# Altium footprint library WE-VD.PcbLib: 60 footprints (part 3 of 4)
Each footprint in its own frame and in the unit in brackets; x right, y up, seen from the top. Pads: shape width x height; smd on the part's side, far side on the other; paste and mask are expansions set on the pad; w line width, h text height; cw(c..) or ccw(c..) is an arc to the next point about the centre after c.
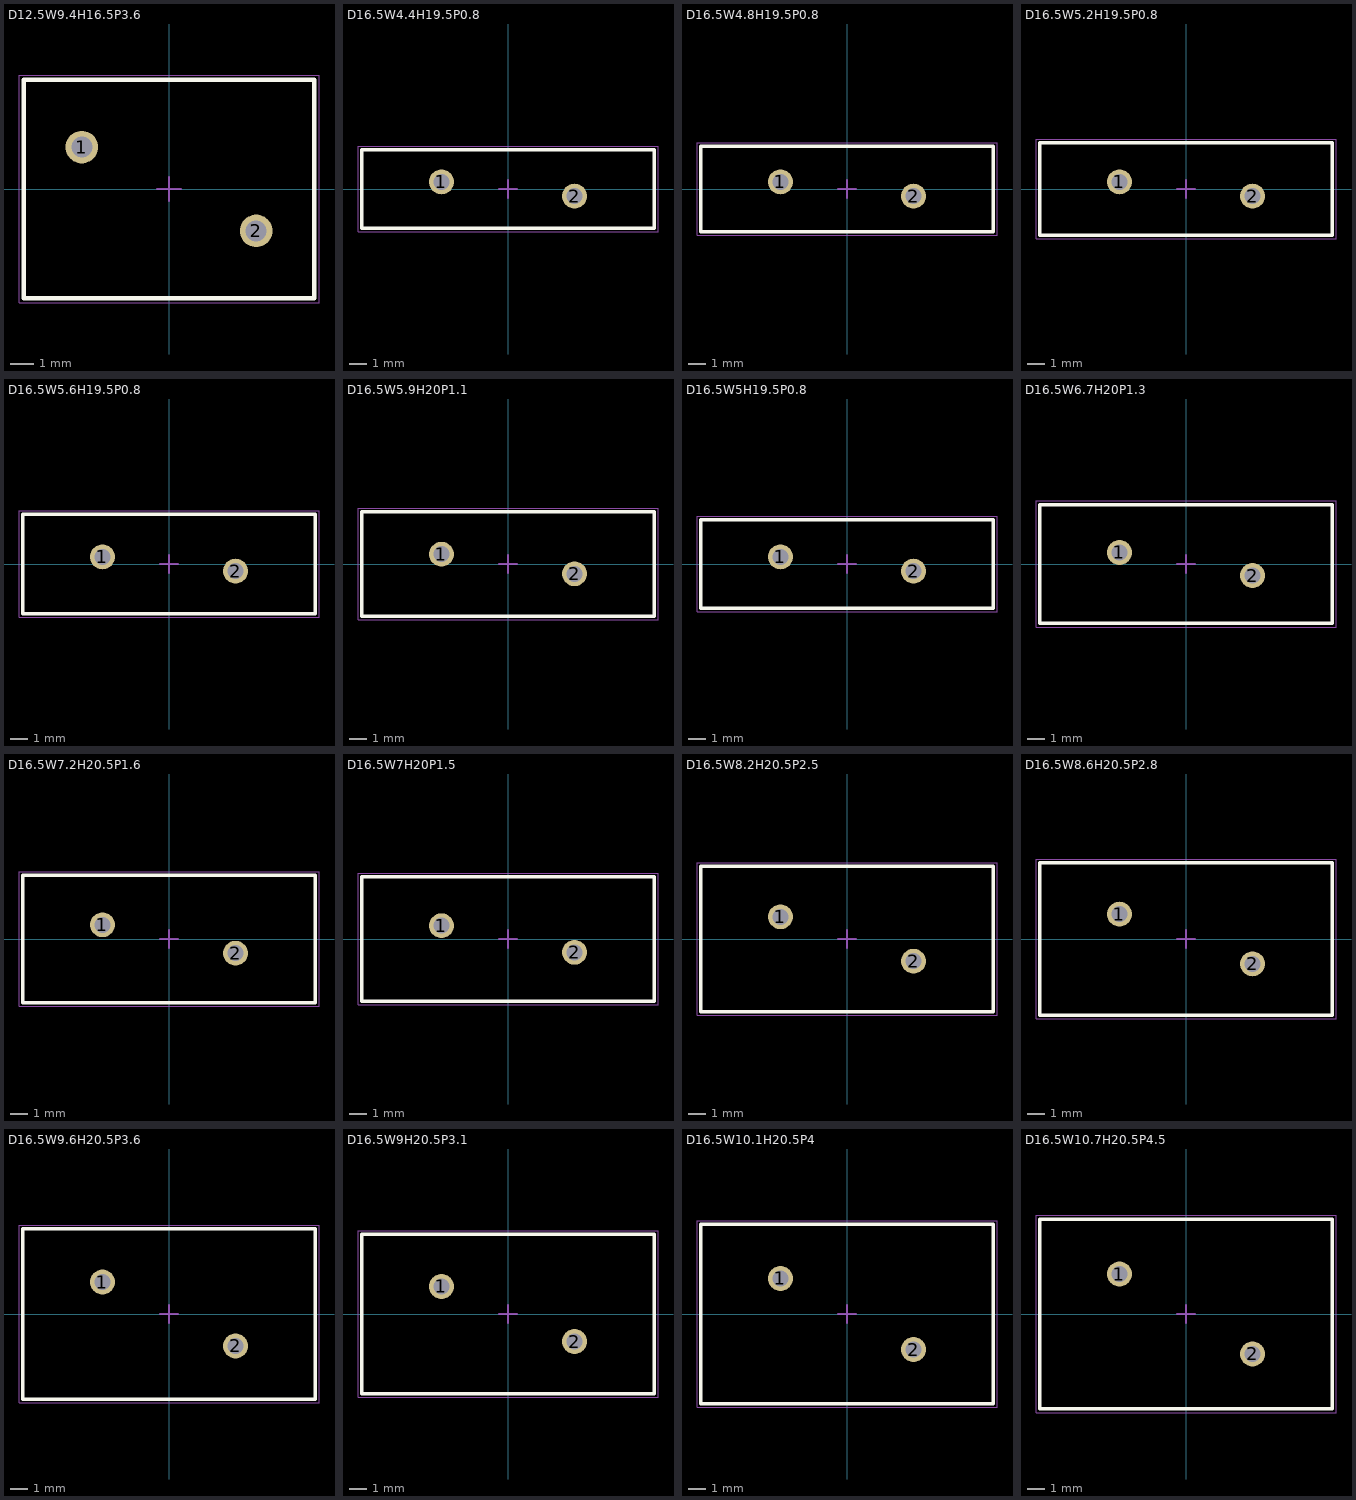
[diagram p2: the footprints below, top view; thin cyan lines are the x and y axes]

## D12.5W9.4H16.5P3.6 [mm] "Disk Varistor, Diameter 12.5mm, Width 9.4mm"
height 16.5
pads (2):
  round 1.4 hole 0.9: 1(-3.75,1.8) 2(3.75,-1.8)
Top Overlay:
  lines w0.2: -6.25,-4.7 6.25,-4.7 6.25,4.7 -6.25,4.7 -6.25,-4.7
Top Assembly:
  lines w0.1: -6.25,-4.7 -6.25,4.7 6.25,4.7 6.25,-4.7 -6.25,-4.7
Top Designator:
  text ".Designator" at -3.647,-0.357 h1
Top Courtyard:
  lines w0.05: -6.45,-4.9 6.45,-4.9 6.45,4.9 -6.45,4.9 -6.45,-4.9
Top Component Center:
  lines w0.1: -0.5,0 0.5,0 ; 0,-0.5 0,0.5
3D body "820x15511x.stp": height 13.4, standoff -22.6, extent -5.5,-3.351 5.5,3.35

## D16.5W4.4H19.5P0.8 [mm] "Disk Varistor, Diameter 16.5mm, Width 4.4mm"
height 19.5
pads (2):
  round 1.4 hole 0.9: 1(-3.75,0.4) 2(3.75,-0.4)
Top Overlay:
  lines w0.2: -8.25,-2.2 -8.25,2.2 8.25,2.2 8.25,-2.2 -8.25,-2.2
Top Assembly:
  lines w0.1: -8.25,-2.2 8.25,-2.2 8.25,2.2 -8.25,2.2 -8.25,-2.2
Top Designator:
  text ".Designator" at -3.647,-0.357 h1
Top Courtyard:
  lines w0.05: -8.45,-2.4 -8.45,2.4 8.45,2.4 8.45,-2.4 -8.45,-2.4
Top Component Center:
  lines w0.1: -0.5,0 0.5,0 ; 0,-0.5 0,0.5
3D body "820x45001x.stp": height 17.5, standoff -22.51, extent -7.5,-1.55 7.5,1.55

## D16.5W4.8H19.5P0.8 [mm] "Disk Varistor, Diameter 16.5mm, Width 4.8mm"
height 19.5
pads (2):
  round 1.4 hole 0.9: 1(-3.75,0.4) 2(3.75,-0.4)
Top Overlay:
  lines w0.2: -8.25,-2.4 -8.25,2.4 8.25,2.4 8.25,-2.4 -8.25,-2.4
Top Assembly:
  lines w0.1: -8.25,-2.4 8.25,-2.4 8.25,2.4 -8.25,2.4 -8.25,-2.4
Top Designator:
  text ".Designator" at -3.647,-0.357 h1
Top Courtyard:
  lines w0.05: -8.45,-2.6 -8.45,2.6 8.45,2.6 8.45,-2.6 -8.45,-2.6
Top Component Center:
  lines w0.1: -0.5,0 0.5,0 ; 0,-0.5 0,0.5
3D body "820x41311.stp": height 17.5, standoff -22.51, extent -7.5,-1.7 7.5,1.7

## D16.5W5.2H19.5P0.8 [mm] "Disk Varistor, Diameter 16.5mm, Width 5.2mm"
height 19.5
pads (2):
  round 1.4 hole 0.9: 1(-3.75,0.4) 2(3.75,-0.4)
Top Overlay:
  lines w0.2: -8.25,-2.6 8.25,-2.6 8.25,2.6 -8.25,2.6 -8.25,-2.6
Top Assembly:
  lines w0.1: -8.25,-2.6 -8.25,2.6 8.25,2.6 8.25,-2.6 -8.25,-2.6
Top Designator:
  text ".Designator" at -3.647,-0.357 h1
Top Courtyard:
  lines w0.05: -8.45,-2.8 8.45,-2.8 8.45,2.8 -8.45,2.8 -8.45,-2.8
Top Component Center:
  lines w0.1: -0.5,0 0.5,0 ; 0,-0.5 0,0.5
3D body "820x42501x.stp": height 17.5, standoff -22.51, extent -7.5,-1.8 7.5,1.8

## D16.5W5.6H19.5P0.8 [mm] "Disk Varistor, Diameter 16.5mm, Width 5.6mm"
height 19.5
pads (2):
  round 1.4 hole 0.9: 1(-3.75,0.4) 2(3.75,-0.4)
Top Overlay:
  lines w0.2: -8.25,-2.8 -8.25,2.8 8.25,2.8 8.25,-2.8 -8.25,-2.8
Top Assembly:
  lines w0.1: -8.25,-2.8 8.25,-2.8 8.25,2.8 -8.25,2.8 -8.25,-2.8
Top Designator:
  text ".Designator" at -3.647,-0.357 h1
Top Courtyard:
  lines w0.05: -8.45,-3 -8.45,3 8.45,3 8.45,-3 -8.45,-3
Top Component Center:
  lines w0.1: -0.5,0 0.5,0 ; 0,-0.5 0,0.5
3D body "820x43001x.stp": height 17.5, standoff -22.51, extent -7.5,-1.9 7.5,1.9

## D16.5W5.9H20P1.1 [mm] "Disk Varistor, Diameter 16.5mm, Width 5.9mm"
height 20
pads (2):
  round 1.4 hole 0.9: 1(-3.75,0.55) 2(3.75,-0.55)
Top Overlay:
  lines w0.2: -8.25,-2.95 8.25,-2.95 8.25,2.95 -8.25,2.95 -8.25,-2.95
Top Assembly:
  lines w0.1: -8.25,-2.95 -8.25,2.95 8.25,2.95 8.25,-2.95 -8.25,-2.95
Top Designator:
  text ".Designator" at -3.647,-0.357 h1
Top Courtyard:
  lines w0.05: -8.45,-3.15 8.45,-3.15 8.45,3.15 -8.45,3.15 -8.45,-3.15
Top Component Center:
  lines w0.1: -0.5,0 0.5,0 ; 0,-0.5 0,0.5
3D body "820x42511x.stp": height 17.5, standoff -22.51, extent -7.5,-2.15 7.5,2.15

## D16.5W5H19.5P0.8 [mm] "Disk Varistor, Diameter 16.5mm, Width 5mm"
height 17.4
pads (2):
  round 1.4 hole 0.9: 1(-3.75,0.4) 2(3.75,-0.4)
Top Overlay:
  lines w0.2: -8.25,-2.5 8.25,-2.5 8.25,2.5 -8.25,2.5 -8.25,-2.5
Top Assembly:
  lines w0.1: -8.25,-2.5 -8.25,2.5 8.25,2.5 8.25,-2.5 -8.25,-2.5
Top Designator:
  text ".Designator" at -3.647,-0.357 h1
Top Courtyard:
  lines w0.05: -8.45,-2.7 8.45,-2.7 8.45,2.7 -8.45,2.7 -8.45,-2.7
Top Component Center:
  lines w0.1: -0.5,0 0.5,0 ; 0,-0.5 0,0.5
3D body "820x41406x.stp": height 17.5, standoff -22.5, extent -7.5,-1.7 7.5,1.7

## D16.5W6.7H20P1.3 [mm] "Disk Varistor, Diameter 16.5mm, Width 6.7mm"
height 20
pads (2):
  round 1.4 hole 0.9: 1(-3.75,0.65) 2(3.75,-0.65)
Top Overlay:
  lines w0.2: -8.25,-3.35 8.25,-3.35 8.25,3.35 -8.25,3.35 -8.25,-3.35
Top Assembly:
  lines w0.1: -8.25,-3.35 -8.25,3.35 8.25,3.35 8.25,-3.35 -8.25,-3.35
Top Designator:
  text ".Designator" at -3.647,-0.357 h1
Top Courtyard:
  lines w0.05: -8.45,-3.55 8.45,-3.55 8.45,3.55 -8.45,3.55 -8.45,-3.55
Top Component Center:
  lines w0.1: -0.5,0 0.5,0 ; 0,-0.5 0,0.5
3D body "820x42711x.stp": height 17.5, standoff -22.51, extent -7.5,-2.25 7.5,2.25

## D16.5W7.2H20.5P1.6 [mm] "Disk Varistor, Diameter 16.5mm, Width 7.2mm"
height 20.5
pads (2):
  round 1.4 hole 0.9: 1(-3.75,0.8) 2(3.75,-0.8)
Top Overlay:
  lines w0.2: -8.25,-3.6 8.25,-3.6 8.25,3.6 -8.25,3.6 -8.25,-3.6
Top Assembly:
  lines w0.1: -8.25,-3.6 -8.25,3.6 8.25,3.6 8.25,-3.6 -8.25,-3.6
Top Designator:
  text ".Designator" at -3.647,-0.357 h1
Top Courtyard:
  lines w0.05: -8.45,-3.8 8.45,-3.8 8.45,3.8 -8.45,3.8 -8.45,-3.8
Top Component Center:
  lines w0.1: -0.5,0 0.5,0 ; 0,-0.5 0,0.5
3D body "820x43211x.stp": height 17.7, standoff -22.3, extent -7.5,-2.4 7.5,2.4

## D16.5W7H20P1.5 [mm] "Disk Varistor, Diameter 16.5mm, Width 7mm"
height 20
pads (2):
  round 1.4 hole 0.9: 1(-3.75,0.75) 2(3.75,-0.75)
Top Overlay:
  lines w0.2: -8.25,-3.5 8.25,-3.5 8.25,3.5 -8.25,3.5 -8.25,-3.5
Top Assembly:
  lines w0.1: -8.25,-3.5 -8.25,3.5 8.25,3.5 8.25,-3.5 -8.25,-3.5
Top Designator:
  text ".Designator" at -3.647,-0.357 h1
Top Courtyard:
  lines w0.05: -8.45,-3.7 8.45,-3.7 8.45,3.7 -8.45,3.7 -8.45,-3.7
Top Component Center:
  lines w0.1: -0.5,0 0.5,0 ; 0,-0.5 0,0.5
3D body "820x43011x.stp": height 17.7, standoff -22.3, extent -7.5,-2.35 7.5,2.35

## D16.5W8.2H20.5P2.5 [mm] "Disk Varistor, Diameter 16.5mm, Width 8.2mm"
height 20.5
pads (2):
  round 1.4 hole 0.9: 1(-3.75,1.25) 2(3.75,-1.25)
Top Overlay:
  lines w0.2: -8.25,-4.1 -8.25,4.1 8.25,4.1 8.25,-4.1 -8.25,-4.1
Top Assembly:
  lines w0.1: -8.25,-4.1 8.25,-4.1 8.25,4.1 -8.25,4.1 -8.25,-4.1
Top Designator:
  text ".Designator" at -3.647,-0.357 h1
Top Courtyard:
  lines w0.05: -8.45,-4.3 -8.45,4.3 8.45,4.3 8.45,-4.3 -8.45,-4.3
Top Component Center:
  lines w0.1: -0.5,0 0.5,0 ; 0,-0.5 0,0.5
3D body "820x44211x.stp": height 17.7, standoff -22.3, extent -7.5,-2.85 7.5,2.85

## D16.5W8.6H20.5P2.8 [mm] "Disk Varistor, Diameter 16.5mm, Width 8.6mm"
height 20.5
pads (2):
  round 1.4 hole 0.9: 1(-3.75,1.4) 2(3.75,-1.4)
Top Overlay:
  lines w0.2: -8.25,-4.3 -8.25,4.3 8.25,4.3 8.25,-4.3 -8.25,-4.3
Top Assembly:
  lines w0.1: -8.25,-4.3 8.25,-4.3 8.25,4.3 -8.25,4.3 -8.25,-4.3
Top Designator:
  text ".Designator" at -3.647,-0.357 h1
Top Courtyard:
  lines w0.05: -8.45,-4.5 -8.45,4.5 8.45,4.5 8.45,-4.5 -8.45,-4.5
Top Component Center:
  lines w0.1: -0.5,0 0.5,0 ; 0,-0.5 0,0.5
3D body "820x44611x.stp": height 17.7, standoff -22.3, extent -7.5,-3 7.5,3

## D16.5W9.6H20.5P3.6 [mm] "Disk Varistor, Diameter 16.5mm, Width 9.6mm"
height 20.5
pads (2):
  round 1.4 hole 0.9: 1(-3.75,1.8) 2(3.75,-1.8)
Top Overlay:
  lines w0.2: -8.25,-4.8 -8.25,4.8 8.25,4.8 8.25,-4.8 -8.25,-4.8
Top Assembly:
  lines w0.1: -8.25,-4.8 8.25,-4.8 8.25,4.8 -8.25,4.8 -8.25,-4.8
Top Designator:
  text ".Designator" at -3.647,-0.357 h1
Top Courtyard:
  lines w0.05: -8.45,-5 -8.45,5 8.45,5 8.45,-5 -8.45,-5
Top Component Center:
  lines w0.1: -0.5,0 0.5,0 ; 0,-0.5 0,0.5
3D body "820x45511x.stp": height 17.7, standoff -22.3, extent -7.5,-3.4 7.5,3.4

## D16.5W9H20.5P3.1 [mm] "Disk Varistor, Diameter 16.5mm, Width 9mm"
height 20.5
pads (2):
  round 1.4 hole 0.9: 1(-3.75,1.55) 2(3.75,-1.55)
Top Overlay:
  lines w0.2: -8.25,-4.5 -8.25,4.5 8.25,4.5 8.25,-4.5 -8.25,-4.5
Top Assembly:
  lines w0.1: -8.25,-4.5 8.25,-4.5 8.25,4.5 -8.25,4.5 -8.25,-4.5
Top Designator:
  text ".Designator" at -3.647,-0.357 h1
Top Courtyard:
  lines w0.05: -8.45,-4.7 -8.45,4.7 8.45,4.7 8.45,-4.7 -8.45,-4.7
Top Component Center:
  lines w0.1: -0.5,0 0.5,0 ; 0,-0.5 0,0.5
3D body "820x45111x.stp": height 17.7, standoff -22.3, extent -7.5,-3.15 7.5,3.15

## D16.5W10.1H20.5P4 [mm] "Disk Varistor, Diameter 16.5mm, Width 10.1mm"
height 20.5
pads (2):
  round 1.4 hole 0.9: 1(-3.75,2) 2(3.75,-2)
Top Overlay:
  lines w0.2: -8.25,-5.05 -8.25,5.05 8.25,5.05 8.25,-5.05 -8.25,-5.05
Top Assembly:
  lines w0.1: -8.25,-5.05 8.25,-5.05 8.25,5.05 -8.25,5.05 -8.25,-5.05
Top Designator:
  text ".Designator" at -3.647,-0.357 h1
Top Courtyard:
  lines w0.05: -8.45,-5.25 -8.45,5.25 8.45,5.25 8.45,-5.25 -8.45,-5.25
Top Component Center:
  lines w0.1: -0.5,0 0.5,0 ; 0,-0.5 0,0.5
3D body "820x46211x.stp": height 17.7, standoff -22.3, extent -7.5,-3.6 7.5,3.6

## D16.5W10.7H20.5P4.5 [mm] "Disk Varistor, Diameter 16.5mm, Width 10.7mm"
height 20.5
pads (2):
  round 1.4 hole 0.9: 1(-3.75,2.25) 2(3.75,-2.25)
Top Overlay:
  lines w0.2: -8.25,-5.35 8.25,-5.35 8.25,5.35 -8.25,5.35 -8.25,-5.35
Top Assembly:
  lines w0.1: -8.25,-5.35 -8.25,5.35 8.25,5.35 8.25,-5.35 -8.25,-5.35
Top Designator:
  text ".Designator" at -3.647,-0.357 h1
Top Courtyard:
  lines w0.05: -8.45,-5.55 8.45,-5.55 8.45,5.55 -8.45,5.55 -8.45,-5.55
Top Component Center:
  lines w0.1: -0.5,0 0.5,0 ; 0,-0.5 0,0.5
3D body "820x46811x.stp": height 17.7, standoff -22.3, extent -7.5,-3.85 7.5,3.85